# EAGLE library part ADR444 (library 0SBLib)
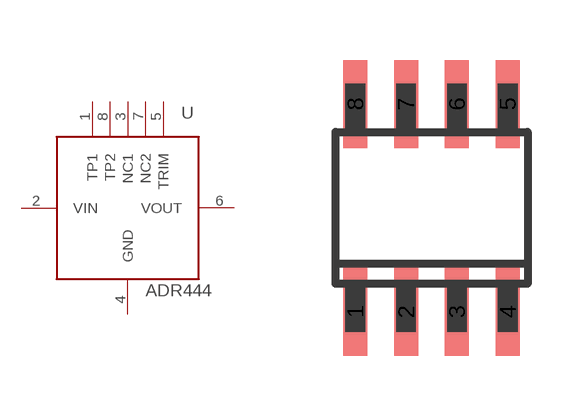
[diagram p19: symbol with the pads of SO-08; footprint SO-08]

Designator prefix -

## ADR444  [SO-08]
1  TP1
2  VIN
3  NC1
4  GND
5  TRIM
6  VOUT
7  NC2
8  TP2

## Footprint SO-08 (pad centres in mm)
Small Outline Narrow Plastic Gull Wing 150-mil body, package type SN
smd 0.6 x 2.2: 1 -1.905,-2.6; 2 -0.635,-2.6; 3 0.635,-2.6; 4 1.905,-2.6; 5 1.905,2.6; 6 0.635,2.6; 7 -0.635,2.6; 8 -1.905,2.6